# EAGLE library part AS1115 (library heck)
LED driver for 64 single LEDs or 8 digits of 7-segments. Can be programmed via I2C interface.
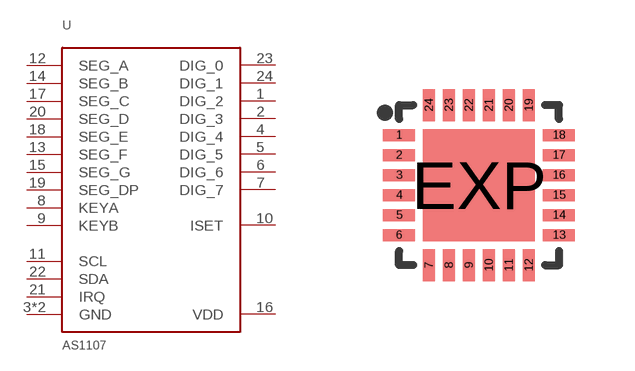
[diagram p28: symbol with the pads of QFN-24; footprint QFN-24]

Designator prefix U

## AS1115-BQFT  [QFN-24]
1  DIG_2
2  DIG_3
3  GND
4  DIG_4
5  DIG_5
6  DIG_6
7  DIG_7
8  KEYA
9  KEYB
10  ISET
11  SCL
12  SEG_A
13  SEG_F
14  SEG_B
15  SEG_G
16  VDD
17  SEG_C
18  SEG_E
19  SEG_DP
20  SEG_D
21  IRQ
22  SDA
23  DIG_0
24  DIG_1
EXP  GND

## Footprint QFN-24 (pad centres in mm)
smd 0.8 x 0.3: 1 -2,1.25; 2 -2,0.75; 3 -2,0.25; 4 -2,-0.25; 5 -2,-0.75; 6 -2,-1.25; 13 2,-1.25; 14 2,-0.75; 15 2,-0.25; 16 2,0.25; 17 2,0.75; 18 2,1.25
smd 0.3 x 0.8: 7 -1.25,-2; 8 -0.75,-2; 9 -0.25,-2; 10 0.25,-2; 11 0.75,-2; 12 1.25,-2; 19 1.25,2; 20 0.75,2; 21 0.25,2; 22 -0.25,2; 23 -0.75,2; 24 -1.25,2
smd 2.8 x 2.8: EXP 0,0